# EAGLE library part CY8C4248LTQ-L485 (library CY8C4248LTQ-L485)
ARM Microcontrollers - MCU PSoC4 Source: Datasheet <https://www.infineon.com/dgdl/Infineon-PSoC_4_PSoC_4200L_Family-DataSheet-v12_00-EN.pdf?fileId=8ac78c8c7d0d8da4017d0ed894aa5a14>
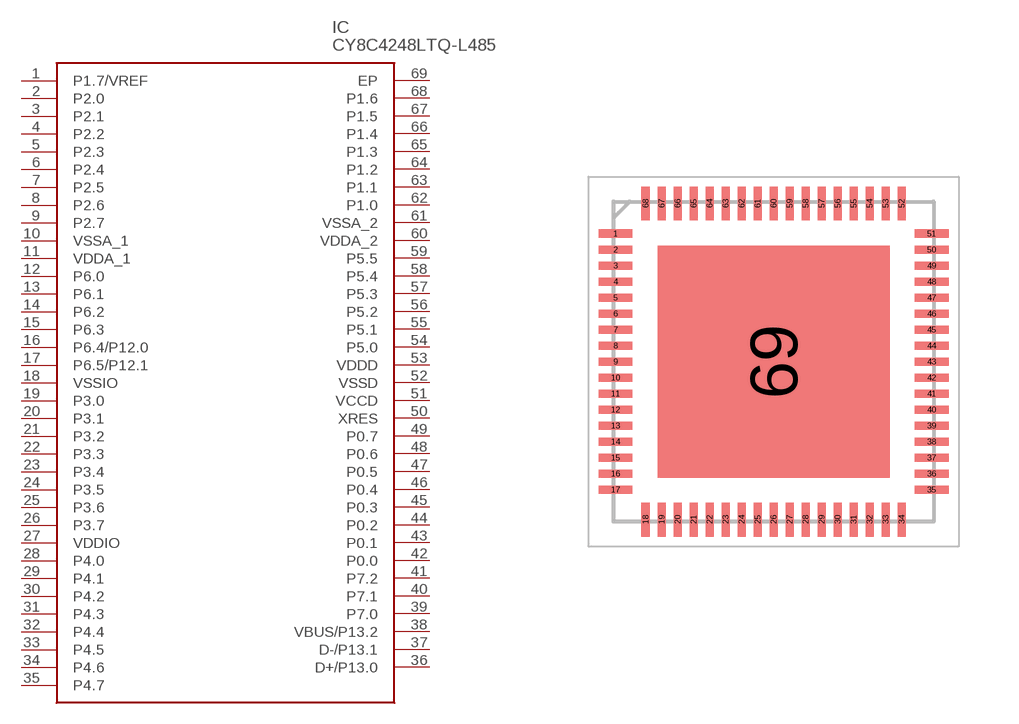
[diagram p0: symbol with the pads of QFN40P800X800X100-69N; footprint QFN40P800X800X100-69N]

Designator prefix IC

## CY8C4248LTQ-L485 (DESCRIPTION: ARM Microcontrollers - MCU PSoC4; HEIGHT: 1mm; MANUFACTURER_NAME: Infineon; MANUFACTURER_PART_NUMBER: CY8C4248LTQ-L485)  [QFN40P800X800X100-69N]
1  P1.7/VREF
2  P2.0
3  P2.1
4  P2.2
5  P2.3
6  P2.4
7  P2.5
8  P2.6
9  P2.7
10  VSSA_1
11  VDDA_1
12  P6.0
13  P6.1
14  P6.2
15  P6.3
16  P6.4/P12.0
17  P6.5/P12.1
18  VSSIO
19  P3.0
20  P3.1
21  P3.2
22  P3.3
23  P3.4
24  P3.5
25  P3.6
26  P3.7
27  VDDIO
28  P4.0
29  P4.1
30  P4.2
31  P4.3
32  P4.4
33  P4.5
34  P4.6
35  P4.7
36  D+/P13.0
37  D-/P13.1
38  VBUS/P13.2
39  P7.0
40  P7.1
41  P7.2
42  P0.0
43  P0.1
44  P0.2
45  P0.3
46  P0.4
47  P0.5
48  P0.6
49  P0.7
50  XRES
51  VCCD
52  VSSD
53  VDDD
54  P5.0
55  P5.1
56  P5.2
57  P5.3
58  P5.4
59  P5.5
60  VDDA_2
61  VSSA_2
62  P1.0
63  P1.1
64  P1.2
65  P1.3
66  P1.4
67  P1.5
68  P1.6
69  EP

## Footprint QFN40P800X800X100-69N (pad centres in mm)
68-pin QFN
smd 0.85 x 0.2: 1 -3.95,3.2; 2 -3.95,2.8; 3 -3.95,2.4; 4 -3.95,2; 5 -3.95,1.6; 6 -3.95,1.2; 7 -3.95,0.8; 8 -3.95,0.4; 9 -3.95,0; 10 -3.95,-0.4; 11 -3.95,-0.8; 12 -3.95,-1.2; 13 -3.95,-1.6; 14 -3.95,-2; 15 -3.95,-2.4; 16 -3.95,-2.8; 17 -3.95,-3.2; 35 3.95,-3.2; 36 3.95,-2.8; 37 3.95,-2.4; 38 3.95,-2; 39 3.95,-1.6; 40 3.95,-1.2; 41 3.95,-0.8; 42 3.95,-0.4; 43 3.95,0; 44 3.95,0.4; 45 3.95,0.8; 46 3.95,1.2; 47 3.95,1.6; 48 3.95,2; 49 3.95,2.4; 50 3.95,2.8; 51 3.95,3.2
smd 0.2 x 0.85: 18 -3.2,-3.95; 19 -2.8,-3.95; 20 -2.4,-3.95; 21 -2,-3.95; 22 -1.6,-3.95; 23 -1.2,-3.95; 24 -0.8,-3.95; 25 -0.4,-3.95; 26 0,-3.95; 27 0.4,-3.95; 28 0.8,-3.95; 29 1.2,-3.95; 30 1.6,-3.95; 31 2,-3.95; 32 2.4,-3.95; 33 2.8,-3.95; 34 3.2,-3.95; 52 3.2,3.95; 53 2.8,3.95; 54 2.4,3.95; 55 2,3.95; 56 1.6,3.95; 57 1.2,3.95; 58 0.8,3.95; 59 0.4,3.95; 60 0,3.95; 61 -0.4,3.95; 62 -0.8,3.95; 63 -1.2,3.95; 64 -1.6,3.95; 65 -2,3.95; 66 -2.4,3.95; 67 -2.8,3.95; 68 -3.2,3.95
smd 5.8 x 5.8: 69 0,0